# Altium footprint library TVAF06.PcbLib: 1 footprints
Each footprint in its own frame and in the unit in brackets; x right, y up, seen from the top. Pads: shape width x height; smd on the part's side, far side on the other; paste and mask are expansions set on the pad; w line width, h text height; cw(c..) or ccw(c..) is an arc to the next point about the centre after c.
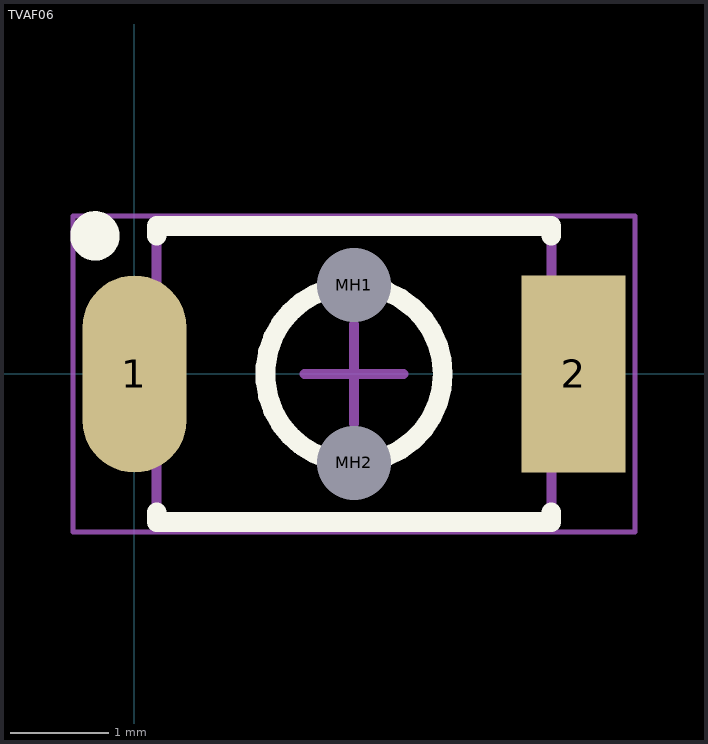
[diagram p0: the footprint, top view; thin cyan lines are the x and y axes]

## TVAF06 [mm] "2-Pin Switch, Push Button, SMD, Body 2.9 x 3.9 mm"
pads (4):
  oval 1.05x2 smd: 1(0,0)
  rect 1.05x2 smd: 2(4.45,0)
  round 0.4 hole 0.75 unplated: MH1(2.225,0.9) MH2(2.225,-0.9)
Top Overlay:
  circle w0.2: c2.225,0 r0.9
  circle w0.25: c-0.4,1.4 r0.125
  lines w0.2: 0.225,-1.4 0.225,-1.5 4.225,-1.5 4.225,-1.4 ; 0.225,1.4 0.225,1.5 4.225,1.5 4.225,1.4
Mechanical 13:
  circle w0.1: c2.225,0 r0.9
  lines w0.1: 0.225,-1.5 0.225,1.5 4.225,1.5 4.225,-1.5 0.225,-1.5
Mechanical 15:
  lines w0.05: -0.625,-1.6 5.075,-1.6 5.075,1.6 -0.625,1.6 -0.625,-1.6
  lines w0.1: 1.725,0 2.725,0 ; 2.225,-0.5 2.225,0.5
3D body: height 2, standoff 0, extent 1.332,-0.898 3.125,0.898
3D body: height 1.5, standoff 0, extent 0.225,-1.5 4.225,1.5